# EAGLE library part MSP430G2452 (library IC_Embedded)
16-bit Microcontrollers - Mixed Signal MCU Datasheet <https://www.ti.com/lit/ds/symlink/msp430g2452.pdf?ts=1631001391616&ref_url=https%253A%252F%252Fwww.google.com%252F>
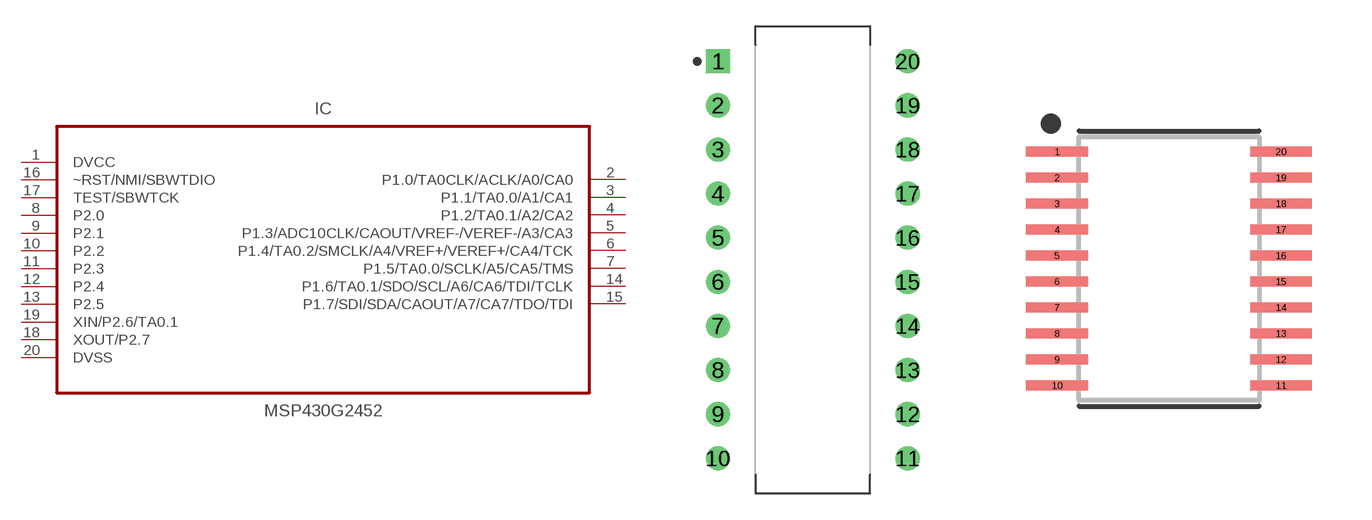
[diagram p24: symbol with the pads of MSP430G2452IN20; footprints MSP430G2452IN20, MSP430G2452IPW20]

Designator prefix IC

## MSP430G245220-PDIP (CATEGORY: 16-bit Microcontrollers - MCU; DESCRIPTION: 16-bit Microcontrollers - MCU Mixed Signal MCU; MANUFACTURER: Texas Instruments; MPN: MSP430G2452IN20; OPERATING_TEMPERATUER: -40 C to +85 C; PART_STATUS: ACTIVE; ROHS_COMPLIANT: COMPLIANT; SERIES: MSP430G2452; SUB_CATEGORY: Microcontroller; VALUE: MSP430G2452)  [MSP430G2452IN20]
1  DVCC  pwr
2  P1.0/TA0CLK/ACLK/A0/CA0
3  P1.1/TA0.0/A1/CA1
4  P1.2/TA0.1/A2/CA2
5  P1.3/ADC10CLK/CAOUT/VREF-/VEREF-/A3/CA3
6  P1.4/TA0.2/SMCLK/A4/VREF+/VEREF+/CA4/TCK
7  P1.5/TA0.0/SCLK/A5/CA5/TMS
8  P2.0
9  P2.1
10  P2.2
11  P2.3
12  P2.4
13  P2.5
14  P1.6/TA0.1/SDO/SCL/A6/CA6/TDI/TCLK
15  P1.7/SDI/SDA/CAOUT/A7/CA7/TDO/TDI
16  ~RST/NMI/SBWTDIO  in
17  TEST/SBWTCK  in
18  XOUT/P2.7
19  XIN/P2.6/TA0.1
20  DVSS  pwr

## MSP430G245220-TSSOP (CATEGORY: 16-bit Microcontrollers - MCU; DESCRIPTION: 16-bit Microcontrollers - MCU Mixed Signal MCU; MANUFACTURER: Texas Instruments; MPN: MSP430G2452IPW20; OPERATING_TEMPERATURE: - 40 C to +85 C; PART_STATUS: ACTIVE; ROHS_COMPLIANT: YES; SERIES: MSP430G2452; SUB_CATEGORY: Microcontroller; VALUE: MSP430G2452)  [MSP430G2452IPW20]
Pads as for MSP430G2452IN20

## Footprint MSP430G2452IN20 (pad centres in mm)
20-DIP, 2.54 mm (0.10 in) pitch, 10.92 mm (0.43 in) span, 25.40 X 6.60 X 5.08 mm body 20-pin DIP package with 2.54 mm (0.10 in) pitch, 10.92 mm (0.43 in) span with body size 25.40 X 6.60 X 5.08 mm
drill 0.786 pad 1.386 square: 1 -5.46,11.43
drill 0.786 pad 1.386: 2 -5.46,8.89; 3 -5.46,6.35; 4 -5.46,3.81; 5 -5.46,1.27; 6 -5.46,-1.27; 7 -5.46,-3.81; 8 -5.46,-6.35; 9 -5.46,-8.89; 10 -5.46,-11.43; 11 5.46,-11.43; 12 5.46,-8.89; 13 5.46,-6.35; 14 5.46,-3.81; 15 5.46,-1.27; 16 5.46,1.27; 17 5.46,3.81; 18 5.46,6.35; 19 5.46,8.89; 20 5.46,11.43

## Footprint MSP430G2452IPW20 (pad centres in mm)
20-SOP, 0.65 mm pitch, 6.40 mm span, 6.50 X 4.40 X 1.20 mm body 20-pin SOP package with 0.65 mm pitch, 6.40 mm span with body size 6.50 X 4.40 X 1.20 mm
smd 1.55 x 0.25: 1 -2.8,2.925; 2 -2.8,2.275; 3 -2.8,1.625; 4 -2.8,0.975; 5 -2.8,0.325; 6 -2.8,-0.325; 7 -2.8,-0.975; 8 -2.8,-1.625; 9 -2.8,-2.275; 10 -2.8,-2.925; 11 2.8,-2.925; 12 2.8,-2.275; 13 2.8,-1.625; 14 2.8,-0.975; 15 2.8,-0.325; 16 2.8,0.325; 17 2.8,0.975; 18 2.8,1.625; 19 2.8,2.275; 20 2.8,2.925